# Altium schematic symbol library Diode_On_Semiconductor_RB520S30T1G_eec.SchLib: 1 symbol
Pins are listed as number, name and electrical type; pins without a type are passive.

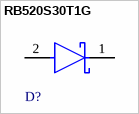
[diagram p0: symbol RB520S30T1G]

## RB520S30T1G
designator D?  (value not drawn)
pins: 1 C, 2 A